# Altium footprint library V2_wearable.PcbLib: 59 footprints (part 2 of 4)
Each footprint in its own frame and in the unit in brackets; x right, y up, seen from the top. Pads: shape width x height; smd on the part's side, far side on the other; paste and mask are expansions set on the pad; w line width, h text height; cw(c..) or ccw(c..) is an arc to the next point about the centre after c.
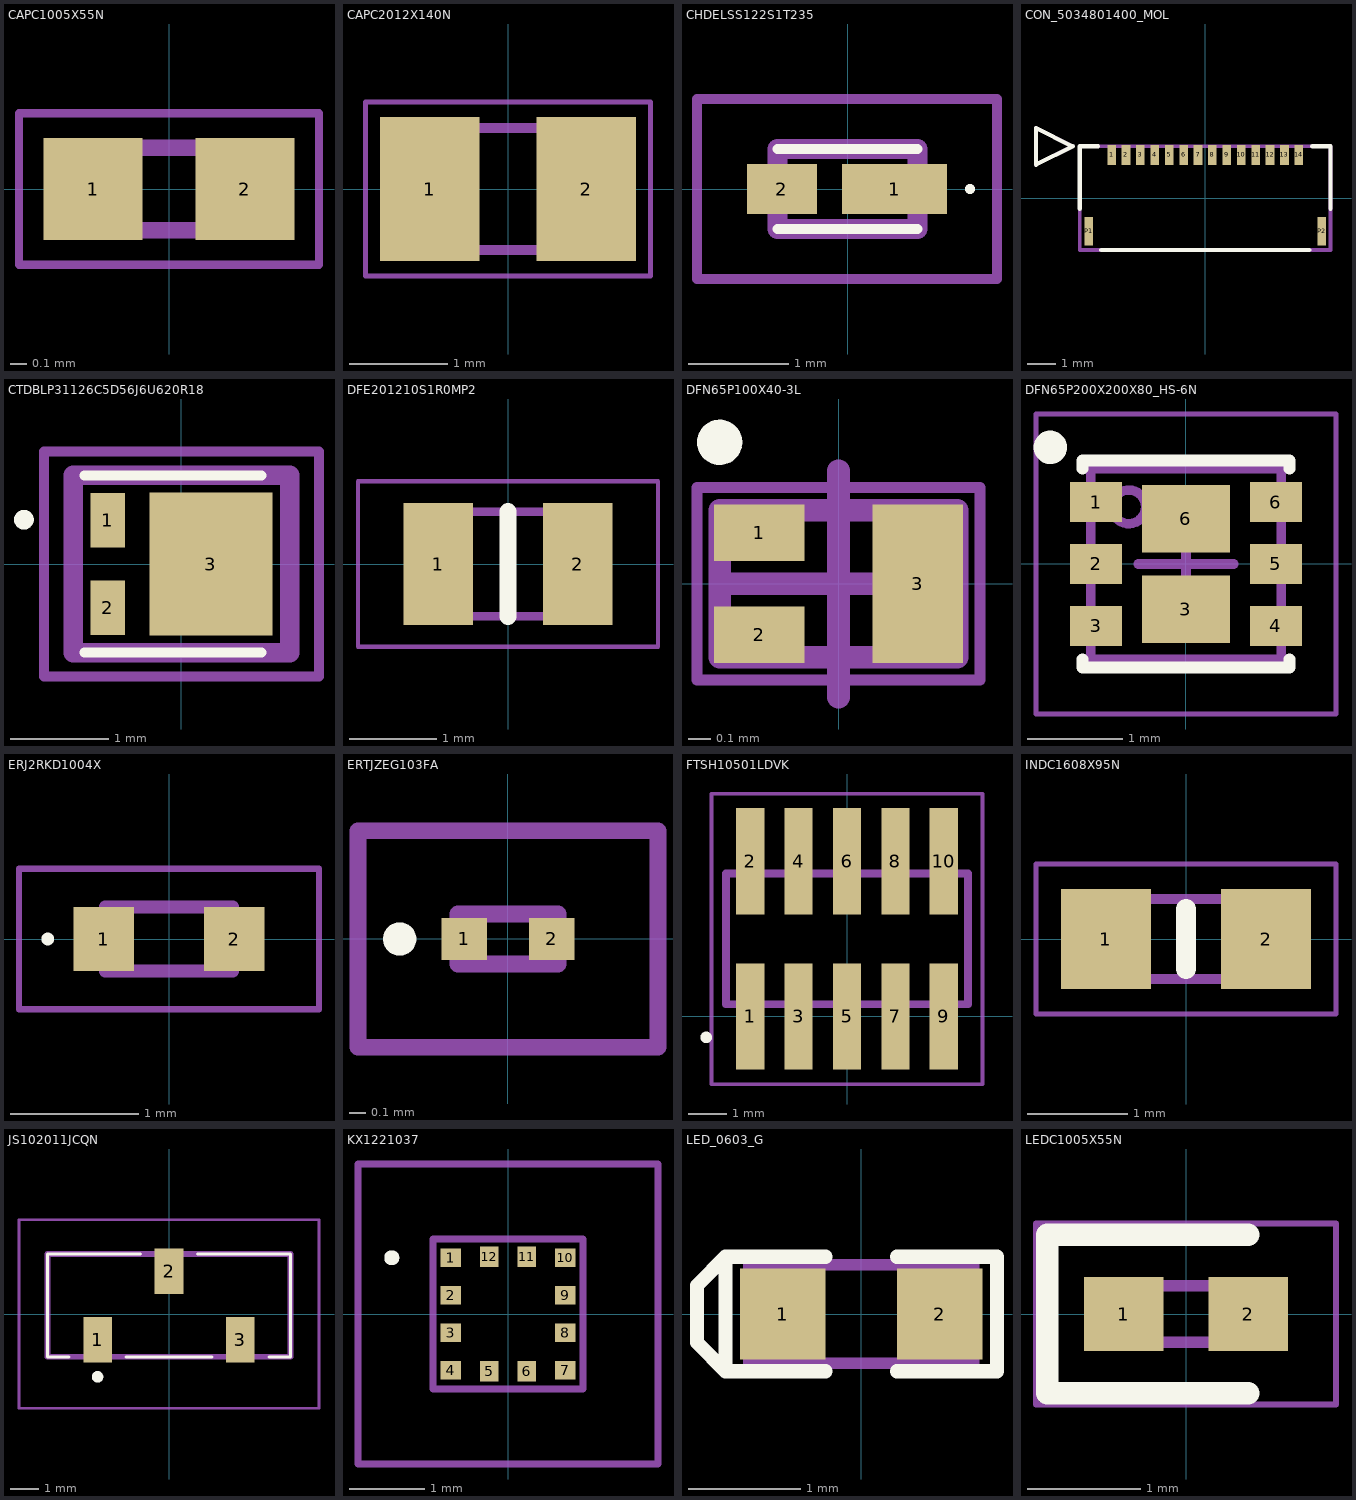
[diagram p1: the footprints below, top view; thin cyan lines are the x and y axes]

## CAPC1005X55N [mm]
pads (2):
  rect 0.6x0.62 smd: 1(-0.46,0) 2(0.46,0)
Mechanical 13:
  lines w0.1: -0.5,-0.25 0.5,-0.25 0.5,0.25 -0.5,0.25 -0.5,-0.25
Mechanical 15:
  lines w0.05: -0.91,-0.46 0.91,-0.46 0.91,0.46 -0.91,0.46 -0.91,-0.46
3D body "GRM155R71C104KA88D.stp": height 0.55, standoff 0, extent -0.5,-0.25 0.5,0.25

## CAPC2012X140N [mm]
pads (2):
  rect 1.02x1.47 smd: 1(-0.8,0) 2(0.8,0)
Mechanical 13:
  lines w0.1: -1,-0.625 1,-0.625 1,0.625 -1,0.625 -1,-0.625
Mechanical 15:
  lines w0.05: -1.46,-0.89 1.46,-0.89 1.46,0.89 -1.46,0.89 -1.46,-0.89
3D body "C0805C473K1RECAUTO7210.stp": height 1.4, standoff 0, extent -1.1,-0.73 1.1,0.72

## CHDELSS122S1T235 [mm]
pads (2):
  rect 1.05x0.5 smd: 1(0.47,0)
  rect 0.7x0.5 smd: 2(-0.657,0)
Top Overlay:
  lines w0.05: 1.2,0 cw(c1.225,0) 1.25,0 cw(c1.225,0) 1.2,0
  lines w0.1: -0.7,-0.4 0.7,-0.4 ; -0.7,0.4 0.7,0.4
Mechanical 13:
  lines w0.2: -0.7,-0.4 -0.7,0.4 0.7,0.4 0.7,-0.4 -0.7,-0.4
Mechanical 15:
  lines w0.1: -1.507,-0.9 -1.507,0.9 1.495,0.9 1.495,-0.9 -1.507,-0.9
3D body "CH_DELSS1.22-S1T2-35.stp": height 0.7, standoff 0, extent -0.7,-0.4 0.7,0.4

## CON_5034801400_MOL [mm]
pads (16):
  rect 0.3x0.7 smd paste+0 mask+0.076: 1(-3.25,1.5) 2(-2.75,1.5) 3(-2.25,1.5) 4(-1.75,1.5) 5(-1.25,1.5) 6(-0.75,1.5) 7(-0.25,1.5) 8(0.25,1.5) 9(0.75,1.5) 10(1.25,1.5) 11(1.75,1.5) 12(2.25,1.5) 13(2.75,1.5) 14(3.25,1.5)
  rect 0.3x1 smd paste+0 mask+0.076: P1(-4.04,-1.15) P2(4.04,-1.15)
Top Overlay:
  lines w0.152: -4.35,-0.373 -4.35,1.8 -3.72,1.8 ; -3.607,-1.8 3.607,-1.8 ; 3.72,1.8 4.35,1.8 4.35,-0.373 ; -5.874,1.165 -5.874,2.435 -4.604,1.8 -5.874,1.165
Mechanical 13:
  lines w0.127: -5.874,1.165 -5.874,2.435 -4.604,1.8 -5.874,1.165 ; -4.35,-1.8 4.35,-1.8 4.35,1.8 -4.35,1.8 -4.35,-1.8
3D body "5034801400.stp": height 1.85, standoff -0.02, extent -4.35,-1.778 4.35,1.822

## CTDBLP31126C5D56J6U620R18 [mm]
pads (3):
  rect 0.35x0.55 smd: 1(-0.75,0.445) 2(-0.75,-0.445)
  rect 1.25x1.45 smd: 3(0.3,0)
Top Overlay:
  lines w0.1: -0.988,-0.9 0.812,-0.9 ; -0.988,0.9 0.812,0.9 ; -1.6,0.4 ccw(c-1.6,0.45) -1.6,0.5 ccw(c-1.6,0.45) -1.6,0.4
Mechanical 13:
  lines w0.2: -1.1,-0.9 -1.1,0.9 1.1,0.9 1.1,-0.9 -1.1,-0.9
Mechanical 15:
  lines w0.1: -1.397,-1.143 -1.397,1.143 1.397,1.143 1.397,-1.143 -1.397,-1.143
3D body "CT_DBLP31.12-6C5D-56-J6U6-20-R18.stp": height 0.6, standoff 0, extent -1.1,-0.9 1.1,0.9

## DFE201210S1R0MP2 [mm]
pads (2):
  rect 0.8x1.4 smd: 1(-0.8,0) 2(0.8,0)
Top Overlay:
  lines w0.2: 0,-0.6 0,0.6
Mechanical 13:
  lines w0.1: -1,-0.6 -1,0.6 1,0.6 1,-0.6 -1,-0.6
Mechanical 15:
  lines w0.05: -1.725,-0.95 -1.725,0.95 1.725,0.95 1.725,-0.95 -1.725,-0.95
3D body "DFE201210U-2R2M=P2.stp": height 1, standoff 0, extent -1,-0.6 1,0.6

## DFN65P100X40-3L [mm]
pads (3):
  rect 0.4x0.25 smd mask+0.05: 1(-0.35,0.225) 2(-0.35,-0.225)
  rect 0.4x0.7 smd mask+0.065: 3(0.35,0)
Top Overlay:
  circle w0.1: c-0.525,0.625 r0.05
Mechanical 7:
  lines w0.1: -0.525,-0.325 0.525,-0.325 0.525,0.325 -0.525,0.325 -0.525,-0.325
  text ".Designator" at -0.425,-0.175 h0.38
Mechanical 15:
  lines w0.05: -0.625,-0.425 0.625,-0.425 0.625,0.425 -0.625,0.425 -0.625,-0.425
  lines w0.1: -0.5,0 0.5,0 ; 0,-0.5 0,0.5
3D body "DFN65P100X40-3L.step": height 0.4, standoff 0, extent -0.525,-0.325 0.525,0.325

## DFN65P200X200X80_HS-6N [mm]
pads (8):
  rect 0.55x0.42 smd mask+0.055: 1(-0.945,0.65) 2(-0.945,0) 3(-0.945,-0.65) 4(0.945,-0.65) 5(0.945,0) 6(0.945,0.65)
  rect 0.92x0.71 smd mask+0.055: 3(0,-0.475) 6(0,0.475)
Top Overlay:
  circle w0.25: c-1.425,1.225 r0.05
  lines w0.125: -1.085,-1 -1.085,-1.085 1.085,-1.085 1.085,-1 ; -1.085,1 -1.085,1.085 1.085,1.085 1.085,1
Mechanical 7:
  circle w0.1: c-0.6,0.6 r0.177
  lines w0.1: -1,-1 1,-1 1,1 -1,1 -1,-1
  text ".Designator" at -0.6,-0.2 h0.38
Mechanical 15:
  lines w0.05: -1.575,-1.575 1.575,-1.575 1.575,1.575 -1.575,1.575 -1.575,-1.575
  lines w0.1: -0.5,0 0.5,0 ; 0,-0.5 0,0.5
3D body "DFN65P200X200X80_HS-6N.step": height 0.8, standoff 0, extent -1.025,-1.025 1.025,1.025

## ERJ2RKD1004X [mm]
pads (2):
  rect 0.475x0.5 smd: 1(-0.512,0) 2(0.512,0)
Top Overlay:
  lines w0.05: -0.95,-0.025 ccw(c-0.95,0) -0.95,0.025 ccw(c-0.95,0) -0.95,-0.025
Mechanical 13:
  lines w0.1: -0.5,-0.25 -0.5,0.25 0.5,0.25 0.5,-0.25 -0.5,-0.25
Mechanical 15:
  lines w0.05: -1.175,-0.55 -1.175,0.55 1.175,0.55 1.175,-0.55 -1.175,-0.55
3D body "ERJ-2RKF2003X.stp": height 0.35, standoff 0, extent -0.5,-0.25 0.5,0.25

## ERTJZEG103FA [mm]
pads (2):
  rect 0.275x0.25 smd: 1(-0.263,0) 2(0.263,0)
Top Overlay:
  lines w0.1: -0.65,-0.05 ccw(c-0.65,0) -0.65,0.05 ccw(c-0.65,0) -0.65,-0.05
Mechanical 13:
  lines w0.1: -0.3,-0.15 -0.3,0.15 0.3,0.15 0.3,-0.15 -0.3,-0.15
Mechanical 15:
  lines w0.1: -0.9,-0.65 -0.9,0.65 0.9,0.65 0.9,-0.65 -0.9,-0.65
3D body "ERT-JZEG103FA.stp": height 0.33, standoff 0, extent -0.3,-0.15 0.3,0.15

## FTSH10501LDVK [mm]
pads (10):
  rect 0.74x2.79 smd: 1(-2.54,0) 2(-2.54,4.07) 3(-1.27,0) 4(-1.27,4.07) 5(0,0) 6(0,4.07) 7(1.27,0) 8(1.27,4.07) 9(2.54,0) 10(2.54,4.07)
Top Overlay:
  lines w0.2: -3.743,-0.549 ccw(c-3.693,-0.549) -3.643,-0.549 ; -3.743,-0.549 cw(c-3.693,-0.549) -3.643,-0.549 ; -3.743,-0.549 ccw(c-3.693,-0.549) -3.643,-0.549
Mechanical 13:
  lines w0.2: -3.175,0.32 3.175,0.32 3.175,3.75 -3.175,3.75 -3.175,0.32
Mechanical 15:
  lines w0.1: -3.556,-1.778 3.556,-1.778 3.556,5.842 -3.556,5.842 -3.556,-1.778
3D body "FTSH-105-01-L-DV-K.stp": height 6.13, standoff 0, extent -3.175,-0.925 3.175,4.925

## INDC1608X95N [mm]
pads (2):
  rect 0.9x1 smd: 1(-0.8,0) 2(0.8,0)
Top Overlay:
  lines w0.2: 0,-0.3 0,0.3
Mechanical 13:
  lines w0.1: -0.8,-0.4 -0.8,0.4 0.8,0.4 0.8,-0.4 -0.8,-0.4
Mechanical 15:
  lines w0.05: -1.5,-0.75 -1.5,0.75 1.5,0.75 1.5,-0.75 -1.5,-0.75
3D body "MLZ1608N2R2LT000.stp": height 0.95, standoff 0, extent -0.8,-0.4 0.8,0.4

## JS102011JCQN [mm]
pads (3):
  rect 1x1.6 smd: 1(-2.5,-0.9) 2(0,1.5) 3(2.5,-0.9)
Top Overlay:
  lines w0.1: -3.5,-1.5 -4.25,-1.5 -4.25,2.1 -1,2.1 ; -1.5,-1.5 1.5,-1.5 ; 1,2.1 4.25,2.1 4.25,-1.5 3.5,-1.5
  lines w0.2: -2.6,-2.2 ccw(c-2.5,-2.2) -2.4,-2.2 ccw(c-2.5,-2.2) -2.6,-2.2
Mechanical 13:
  lines w0.2: -4.25,-1.5 -4.25,2.1 4.25,2.1 4.25,-1.5 -4.25,-1.5
Mechanical 15:
  lines w0.1: -5.25,-3.3 -5.25,3.3 5.25,3.3 5.25,-3.3 -5.25,-3.3
3D body "JS102011JCQN.stp": height 5.65, standoff 0, extent -4.25,-1.75 4.25,2.35

## KX1221037 [mm]
pads (12):
  rect 0.275x0.25 smd: 1(-0.763,0.75) 2(-0.763,0.25) 3(-0.763,-0.25) 4(-0.763,-0.75) 7(0.763,-0.75) 8(0.763,-0.25) 9(0.763,0.25) 10(0.763,0.75)
  rect 0.25x0.275 smd: 5(-0.25,-0.763) 6(0.25,-0.763) 11(0.25,0.763) 12(-0.25,0.763)
Top Overlay:
  lines w0.1: -1.6,0.75 cw(c-1.55,0.75) -1.5,0.75 cw(c-1.55,0.75) -1.6,0.75
Mechanical 13:
  lines w0.1: -1,-1 -1,1 1,1 1,-1 -1,-1
Mechanical 15:
  lines w0.1: -2,-2 -2,2 2,2 2,-2 -2,-2
3D body "KX122-1037.stp": height 1.1, standoff 0, extent -1,-1 1,1

## LED_0603_G [mil]
pads (2):
  rect 30x32 smd: 1(-27.5,0) 2(27.5,0)
Top Overlay:
  lines w5: -12.5,-20 -47.5,-20 ; -12.5,20 -47.5,20 ; 12.5,-20 47.5,-20 47.5,20 12.5,20 ; -47.5,-20 -47.5,20 ; -47.5,-20 -57.5,-10 -57.5,10 -47.5,20
Mechanical 7:
  lines w3.94: -27.56,-17.26 -27.56,17.26 ; -23.62,-17.26 -23.62,17.26 ; 23.62,-17.26 23.62,17.26 ; 27.56,-17.26 27.56,17.26 ; -39.37,-17.26 39.37,-17.26 39.37,17.26 -39.37,17.26 -39.37,-17.26
  text ".Designator" at -39,22 h12
3D body "User Library-led_0603_green.step": height 23.62, standoff 0, extent -31.63,-15.75 32.15,15.75

## LEDC1005X55N [mm]
pads (2):
  rect 0.7x0.65 smd: 1(-0.55,0) 2(0.55,0)
Top Overlay:
  lines w0.2: 0.55,-0.7 -1.225,-0.7 -1.225,0.7 0.55,0.7
Mechanical 13:
  lines w0.1: -0.5,0.083 -0.333,0.25 ; -0.5,-0.25 -0.5,0.25 0.5,0.25 0.5,-0.25 -0.5,-0.25
Mechanical 15:
  lines w0.05: -1.325,-0.8 -1.325,0.8 1.325,0.8 1.325,-0.8 -1.325,-0.8